# EAGLE library part WROVER_32 (library PonLib)
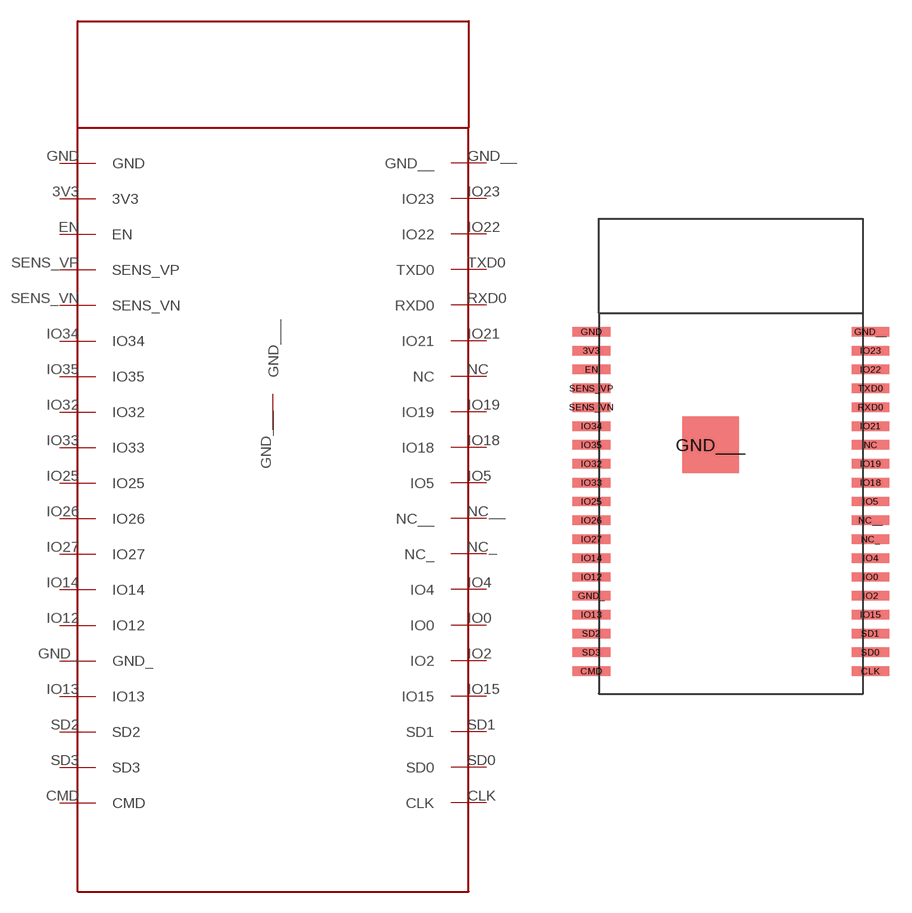
[diagram p32: symbol with the pads of WROVER_32; footprint WROVER_32]

Designator prefix -

## WROVER_32  [WROVER_32]
3V3  3V3
CLK  CLK
CMD  CMD
EN  EN
GND  GND
GND_  GND_
GND__  GND__
GND___  GND___
IO0  IO0
IO2  IO2
IO4  IO4
IO5  IO5
IO12  IO12
IO13  IO13
IO14  IO14
IO15  IO15
IO18  IO18
IO19  IO19
IO21  IO21
IO22  IO22
IO23  IO23
IO25  IO25
IO26  IO26
IO27  IO27
IO32  IO32
IO33  IO33
IO34  IO34
IO35  IO35
NC  NC
NC_  NC_
NC__  NC__
RXD0  RXD0
SD0  SD0
SD1  SD1
SD2  SD2
SD3  SD3
SENS_VN  SENS_VN
SENS_VP  SENS_VP
TXD0  TXD0

## Footprint WROVER_32 (pad centres in mm)
smd 2.54 x 0.635: 3V3 -9.398,21.59; CLK 9.398,0; CMD -9.398,0; EN -9.398,20.32; GND -9.398,22.86; GND_ -9.398,5.08; GND__ 9.398,22.86; IO0 9.398,6.35; IO2 9.398,5.08; IO4 9.398,7.62; IO5 9.398,11.43; IO12 -9.398,6.35; IO13 -9.398,3.81; IO14 -9.398,7.62; IO15 9.398,3.81; IO18 9.398,12.7; IO19 9.398,13.97; IO21 9.398,16.51; IO22 9.398,20.32; IO23 9.398,21.59; IO25 -9.398,11.43; IO26 -9.398,10.16; IO27 -9.398,8.89; IO32 -9.398,13.97; IO33 -9.398,12.7; IO34 -9.398,16.51; IO35 -9.398,15.24; NC 9.398,15.24; NC_ 9.398,8.89; NC__ 9.398,10.16; RXD0 9.398,17.78; SD0 9.398,1.27; SD1 9.398,2.54; SD2 -9.398,2.54; SD3 -9.398,1.27; SENS_VN -9.398,17.78; SENS_VP -9.398,19.05; TXD0 9.398,19.05
smd 3.81 x 3.81: GND___ -1.372,15.24